# Altium schematic symbol library LT1761.Schlib: 1 symbol
Pins are listed as number, name and electrical type; pins without a type are passive.

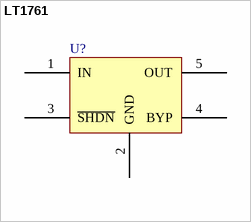
[diagram p0: symbol LT1761]

## LT1761
designator U?
pins: 1 IN, 2 GND, 3 ~{SHDN}, 4 BYP, 5 OUT